# EAGLE library part CD4051B (library uRings_SE_Library)
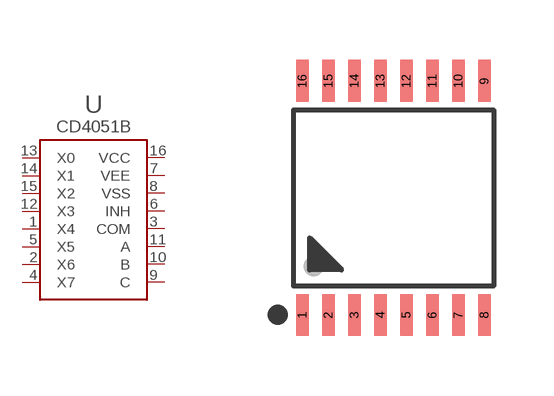
[diagram p0: symbol with the pads of TSSOP-16; footprint TSSOP-16]

Designator prefix U

## CD4051B  [TSSOP-16]
1  X4
2  X6
3  COM
4  X7
5  X5
6  INH
7  VEE
8  VSS
9  C
10  B
11  A
12  X3
13  X0
14  X1
15  X2
16  VCC

## Footprint TSSOP-16 (pad centres in mm)
smd 0.32 x 1.05: 1 -2.275,-2.925; 2 -1.625,-2.925; 3 -0.975,-2.925; 4 -0.325,-2.925; 5 0.325,-2.925; 6 0.975,-2.925; 7 1.625,-2.925; 8 2.275,-2.925; 9 2.275,2.925; 10 1.625,2.925; 11 0.975,2.925; 12 0.325,2.925; 13 -0.325,2.925; 14 -0.975,2.925; 15 -1.625,2.925; 16 -2.275,2.925